# Altium schematic symbol library Schlib1.SchLib: 3 symbols
Pins are listed as number, name and electrical type; pins without a type are passive.

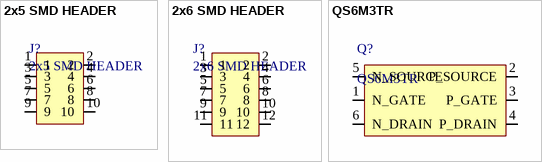
[diagram p0: symbols 2x5 SMD HEADER to QS6M3TR]

## 2x5 SMD HEADER
designator J?
footprint 2x5 SMD HEADER
pins: 1, 2, 3, 4, 5, 6, 7, 8, 9, 10

## 2x6 SMD HEADER
designator J?
footprint 2x6 SMD HEADER
pins: 1, 2, 3, 4, 5, 6, 7, 8, 9, 10, 11, 12

## QS6M3TR
designator Q?
footprint QS6M3TR (SOT23, 6-Leads, Body 2.90x2.80mm, Pitch 0.95mm, IPC Medium Density)
pins: 1 N_GATE, 2 P_SOURCE, 3 P_GATE, 4 P_DRAIN, 5 N_SOURCE, 6 N_DRAIN